# Altium footprint library Supernova Transistors.PcbLib: 21 footprints (part 2 of 2)
Each footprint in its own frame and in the unit in brackets; x right, y up, seen from the top. Pads: shape width x height; smd on the part's side, far side on the other; paste and mask are expansions set on the pad; w line width, h text height; cw(c..) or ccw(c..) is an arc to the next point about the centre after c.
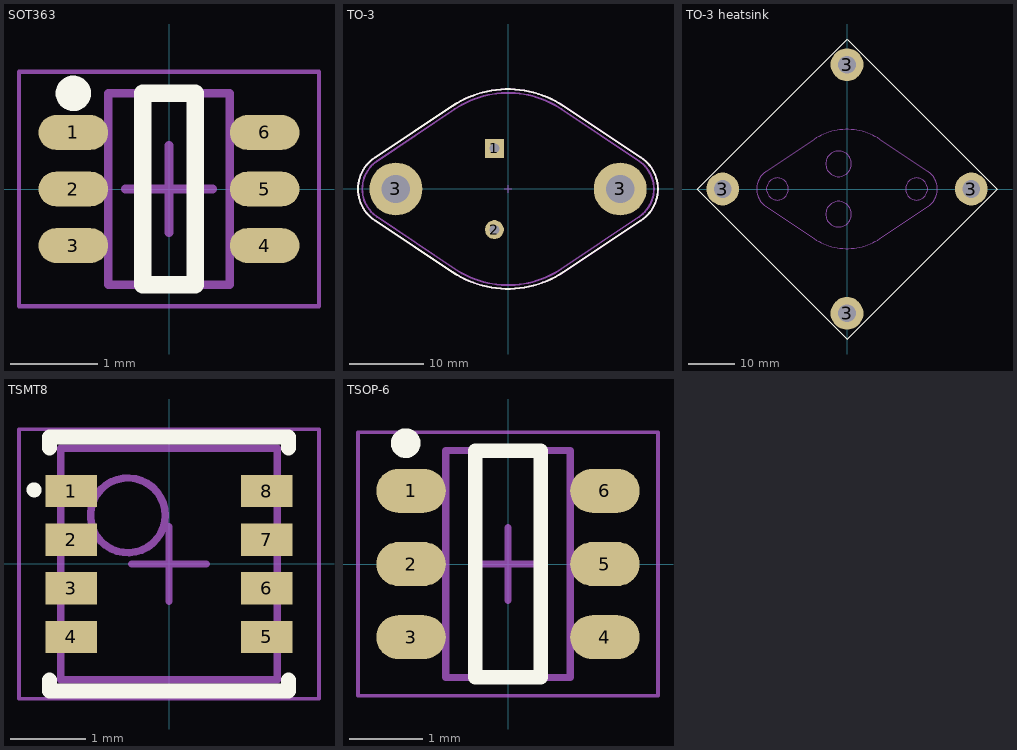
[diagram p1: the footprints below, top view; thin cyan lines are the x and y axes]

## SOT363 [mm] "TSOP, 6-Leads, Body 2.00x1.25mm, Pitch 0.65mm, IPC Medium Density"
height 1.1
pads (6):
  oval 0.8x0.4 smd mask+0.025: 1(-1.1,0.65) 2(-1.1,0) 3(-1.1,-0.65) 4(1.1,-0.65) 5(1.1,0) 6(1.1,0.65)
Top Overlay:
  circle w0.203: c-1.1,1.1 r0.102
  lines w0.2: -0.3,-1.1 0.3,-1.1 0.3,1.1 -0.3,1.1 -0.3,-1.1
Top 3D Body (Mech13):
  lines w0.1: -0.7,-1.1 0.7,-1.1 0.7,1.1 -0.7,1.1 -0.7,-1.1
Top Courtyard (Mech15):
  lines w0.05: -1.725,-1.35 1.725,-1.35 1.725,1.35 -1.725,1.35 -1.725,-1.35
  lines w0.1: -0.5,0 0.5,0 ; 0,-0.5 0,0.5
3D body: height 0.2, standoff 0, extent -1.325,-0.8 1.325,-0.5
3D body: height 0.2, standoff 0, extent -1.325,-0.15 1.325,0.15
3D body: height 0.2, standoff 0, extent -1.325,0.5 1.325,0.8
3D body: height 1.1, standoff 0, extent -0.7,-1.1 0.7,1.1

## TO-3 [mil]
pads (4):
  rect 100x100 hole 51.18: 1(-72,215)
  round 100 hole 51.18: 2(-72,-215)
  round 280 hole 150: 3(-593.5,0) 3(593.5,0)
Top Overlay:
  lines w10: -705.54,-166.27 cw(c-594.16,-0.15) -705.54,165.97 -294.97,438.82 cw(c-0.66,-0.15) 293.65,438.82 704.21,165.97 cw(c592.84,-0.15) 704.21,-166.27 293.65,-439.12 cw(c-0.66,-0.15) -294.97,-439.12 -705.54,-166.27
Top 3D Body (Mech13):
  lines w10: -692.62,-147.85 cw(c-593.5,0) -692.62,147.85 -283.17,422.36 cw(c0,0) 283.17,422.36 692.62,147.85 cw(c593.5,0) 692.62,-147.85 283.17,-422.36 cw(c0,0) -283.17,-422.36 -692.62,-147.85
Top Courtyard (Mech15):
  lines w3.94: -19.69,0 19.68,0 ; 0,-19.68 0,19.69
  lines w10: -704.88,-166.12 cw(c-593.5,0) -704.88,166.12 -294.31,438.97 cw(c0,0) 294.31,438.97 704.88,166.12 cw(c593.5,0) 704.88,-166.12 294.31,-438.97 cw(c0,0) -294.31,-438.97 -704.88,-166.12
3D body "2N3055 TO-3.STEP": height 519.68, standoff -350.39, extent -836.9,-798.52 836.9,798.54

## TO-3 heatsink [mil]
pads (4):
  round 280 hole 150: 3(-1061,0) 3(0,-1061) 3(0,1061) 3(1061,0)
Top Overlay:
  lines w10: -1280,0 0,-1280 1280,0 0,1280 -1280,0
Mechanical 5:
  circle w10: c-72,215 r109.06
  circle w10: c593.5,0 r94.09
  circle w10: c-593.5,0 r94.09
  circle w10: c-72,-215 r109.06
Top 3D Body (Mech13):
  lines w10: -692.62,-147.85 cw(c-593.5,0) -692.62,147.85 -283.17,422.36 cw(c0,0) 283.17,422.36 692.62,147.85 cw(c593.5,0) 692.62,-147.85 283.17,-422.36 cw(c0,0) -283.17,-422.36 -692.62,-147.85
3D body "500403B00000G (1).step": height 1250, standoff 0, extent -1279.86,-1279.87 1279.87,1279.87

## TSMT8 [mm] "SON, 8-Leads, Body 3.00x2.80mm, Pitch 0.65mm, IPC Medium Density"
height 0.85
pads (8):
  rect 0.69x0.432 smd mask+0.025: 1(-1.305,0.975) 2(-1.305,0.325) 3(-1.305,-0.325) 4(-1.305,-0.975) 5(1.305,-0.975) 6(1.305,-0.325) 7(1.305,0.325) 8(1.305,0.975)
Top Overlay:
  circle w0.1: c-1.803,0.991 r0.05
  lines w0.2: -1.6,-1.55 -1.6,-1.7 1.6,-1.7 1.6,-1.55 ; -1.6,1.55 -1.6,1.7 1.6,1.7 1.6,1.55
Top 3D Body (Mech13):
  circle w0.1: c-0.55,0.65 r0.5
  lines w0.1: -1.45,-1.55 1.45,-1.55 1.45,1.55 -1.45,1.55 -1.45,-1.55
Top Courtyard (Mech15):
  lines w0.05: -2.005,-1.8 2.005,-1.8 2.005,1.8 -2.005,1.8 -2.005,-1.8
  lines w0.1: -0.5,0 0.5,0 ; 0,-0.5 0,0.5
3D body: height 0.85, standoff 0, extent -1.45,-1.55 1.45,1.55

## TSOP-6 [mm]
height 1.1
pads (6):
  oval 0.95x0.6 smd: 1(-1.325,1) 2(-1.325,0) 3(-1.325,-1) 4(1.325,-1) 5(1.325,0) 6(1.325,1)
Top Overlay:
  circle w0.203: c-1.397,1.651 r0.102
  lines w0.2: -0.45,-1.55 -0.45,1.55 0.45,1.55 0.45,-1.55 -0.45,-1.55
Top 3D Body (Mech13):
  lines w0.1: -0.85,-1.55 -0.85,1.55 0.85,1.55 0.85,-1.55 -0.85,-1.55
Top Courtyard (Mech15):
  lines w0.05: -2.05,-1.8 -2.05,1.8 2.05,1.8 2.05,-1.8 -2.05,-1.8
  lines w0.1: -0.5,0 0.5,0 ; 0,-0.5 0,0.5
3D body: height 1.1, standoff 0, extent -0.85,-1.55 0.85,1.55
3D body: height 0.2, standoff 0, extent -1.55,0.85 1.55,1.15
3D body: height 0.2, standoff 0, extent -1.55,-0.15 1.55,0.15
3D body: height 0.2, standoff 0, extent -1.55,-1.15 1.55,-0.85